# Altium schematic symbol library TPS54260DGQR.SchLib: 1 symbol
Pins are listed as number, name and electrical type; pins without a type are passive.

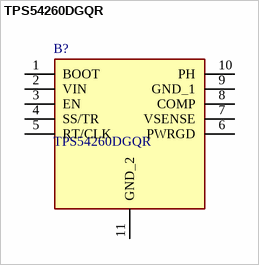
[diagram p0: symbol TPS54260DGQR]

## TPS54260DGQR
designator B?
3.5V to 60V INPUT, 2.5A, STEP DOWN CONVERTER WITH ECO-MODE; Manufacturer_Name: Texas Instruments; Geometry.Height: 1.1mm; Manufacturer_Part_Number: TPS54260DGQR; Mouser Part Number: 595-TPS54260DGQR; Mouser Price/Stock: https://www.mouser.co.uk/ProductDetail/Texas-Instruments/TPS54260DGQR?qs=aOxU%252BKP9clSh979VGmN2fg%3D%3D; Arrow Part Number: TPS54260DGQR; Arrow Price/Stock: https://www.arrow.com/en/products/tps54260dgqr/texas-instruments?region=nac; Mouser Testing Part Number: *; Mouser Testing Price/Stock: *; Datasheet Link: http://www.ti.com/lit/gpn/TPS54260
footprint SOP50P490X110-11N
pins: 1 BOOT, 2 VIN, 3 EN, 4 SS/TR, 5 RT/CLK, 6 PWRGD, 7 VSENSE, 8 COMP, 9 GND_1, 10 PH, 11 GND_2